# EAGLE library part GYSFDMAXB (library taki-library)
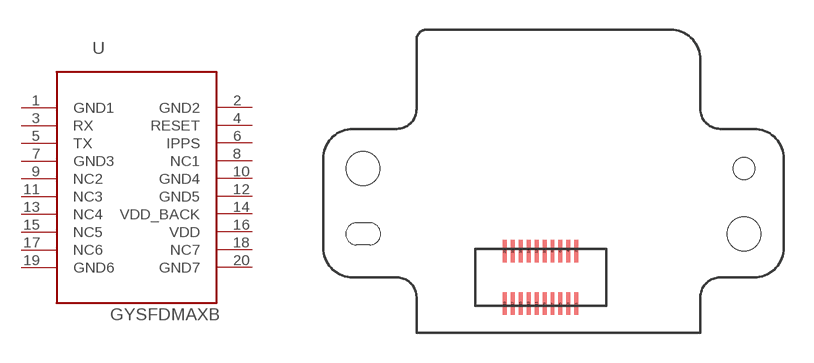
[diagram p18: symbol with the pads of GYSFDMAXB; footprint GYSFDMAXB]

Designator prefix U

## GYSFDMAXB  [GYSFDMAXB]
1  GND1
2  GND2
3  RX
4  RESET
5  TX
6  IPPS
7  GND3
8  NC1
9  NC2
10  GND4
11  NC3
12  GND5
13  NC4
14  VDD_BACK
15  NC5
16  VDD
17  NC6
18  NC7
19  GND6
20  GND7

## Footprint GYSFDMAXB (pad centres in mm)
smd 0.2 x 1.14: 1 10.75,-6.82; 2 10.75,-4.18; 3 10.35,-6.82; 4 10.35,-4.18; 5 9.95,-6.82; 6 9.95,-4.18; 7 9.55,-6.82; 8 9.55,-4.18; 9 9.15,-6.82; 10 9.15,-4.18; 11 8.75,-6.82; 12 8.75,-4.18; 13 8.35,-6.82; 14 8.35,-4.18; 15 7.95,-6.82; 16 7.95,-4.18; 17 7.55,-6.82; 18 7.55,-4.18; 19 7.15,-6.82; 20 7.15,-4.18
hole 1.1 at 19.2,0
hole 1.7 at 19.2,-3.3
hole 1.7 at 0,0